# Altium footprint library 分立器件.PcbLib: 102 footprints (part 6 of 7)
Each footprint in its own frame and in the unit in brackets; x right, y up, seen from the top. Pads: shape width x height; smd on the part's side, far side on the other; paste and mask are expansions set on the pad; w line width, h text height; cw(c..) or ccw(c..) is an arc to the next point about the centre after c.
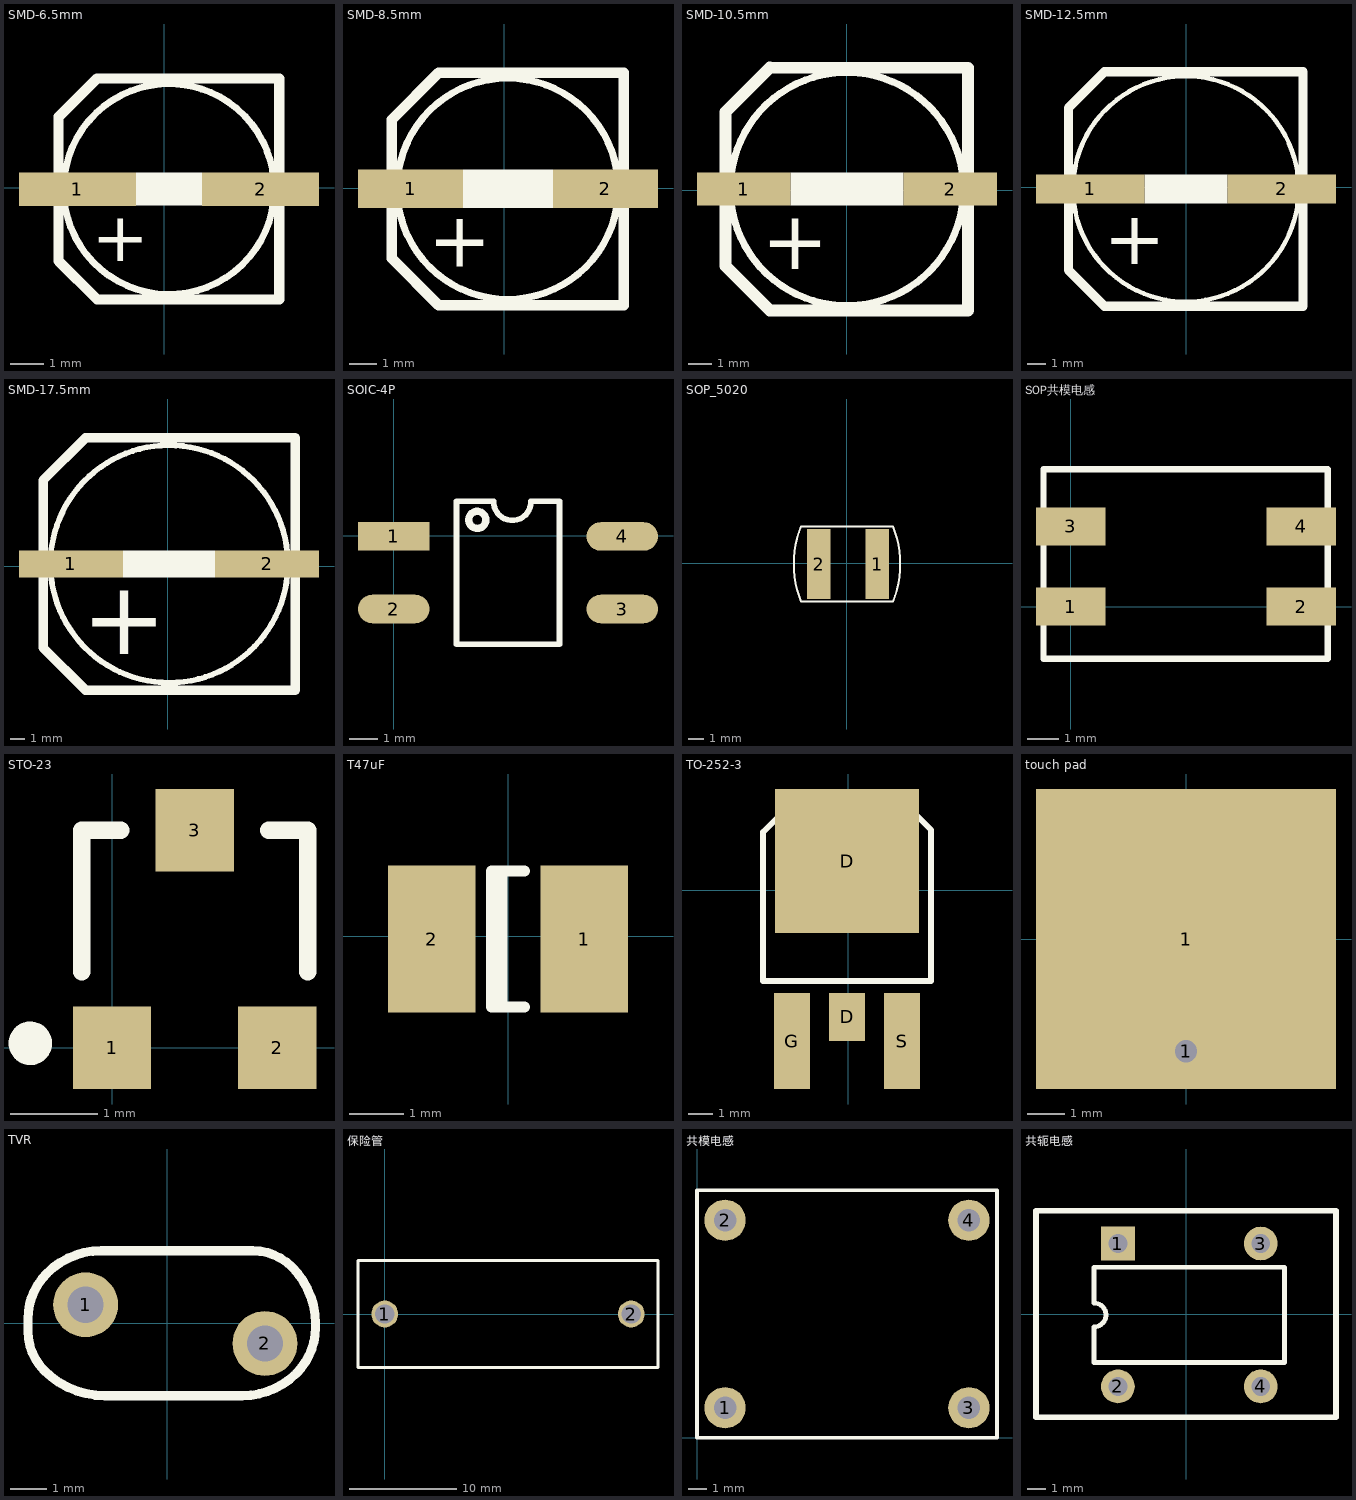
[diagram p5: the footprints below, top view; thin cyan lines are the x and y axes]

## SMD-6.5mm [mm]
pads (2):
  rect 3.5x1 smd: 1(-2.593,-0.049) 2(2.882,-0.049)
Top Overlay:
  rectangle: -0.846,-0.545 1.137,0.451
  lines w0.203: 3.075,1.105 cw(c0.143,-0.047) 3.074,1.107
  lines w0.305: -2.006,-3.352 -3.157,-2.201 -3.157,2.114 -2.006,3.265 ; -2.003,-3.354 3.443,-3.354 3.443,3.26 -2.001,3.26
  text "+" at -2.162,-2.213 h1.5

## SMD-8.5mm [mm]
pads (2):
  rect 3.8x1.4 smd: 1(-3.392,-0.021) 2(3.658,-0.021)
Top Overlay:
  rectangle: -1.503,-0.72 1.76,0.679
  lines w0.254: 4.123,-0.02 ccw(c0.123,-0.02) 4.123,-0.021
  lines w0.381: -4.078,2.478 -2.379,4.178 ; -4.078,2.478 -4.078,-2.541 -2.379,-4.24 4.322,-4.24 4.322,4.178 -2.379,4.178 ; -4.078,2.478 -2.379,4.178
  text "+" at -2.752,-2.838 h2

## SMD-10.5mm [mm]
pads (2):
  rect 4x1.4 smd: 1(-4.411,0.049) 2(4.448,0.049)
Top Overlay:
  circle w0.305: c0.011,0.049 r5
  rectangle: -2.406,-0.652 2.438,0.756
  lines w0.508: -3.291,5.252 -5.189,3.355 -5.189,-3.254 -3.291,-5.152 5.209,-5.152 5.209,5.249 -3.288,5.249
  text "+" at -3.631,-3.391 h2.5

## SMD-12.5mm [mm]
pads (2):
  rect 6x1.6 smd: 1(-5.337,-0.092) 2(5.288,-0.092)
Top Overlay:
  circle w0.254: c-0.034,-0.092 r6.25
  rectangle: -2.318,-0.892 2.264,0.709
  lines w0.508: -6.539,-4.59 -6.539,4.402 -4.54,6.401 -4.538,6.403 6.46,6.403 6.46,-6.591 -4.538,-6.591 -6.539,-4.59
  text "+" at -4.588,-4.26 h3

## SMD-17.5mm [mm]
pads (2):
  rect 7x1.8 smd: 1(-6.511,0.141) 2(6.704,0.141)
Top Overlay:
  rectangle: -3.008,-0.759 3.185,1.055
  lines w0.381: 7.79,2.381 ccw(c0.109,0.142) 7.804,2.331
  lines w0.635: 8.611,-8.358 8.612,-8.359 ; 8.611,8.637 8.612,8.638 ; 8.612,-8.359 8.612,8.638 ; 8.612,-8.359 -5.53,-8.359 -8.388,-5.501 -8.388,5.779 -5.53,8.638 8.612,8.638
  text "+" at -5.782,-5.946 h5

## SOIC-4P [mm]
pads (4):
  rect 2.5x1 smd: 1(0,-0.025)
  oval 2.5x1 smd: 2(0,-2.565) 3(8,-2.565) 4(8,-0.025)
Top Overlay:
  circle w0.254: c2.925,0.555 r0.3
  lines w0.2: 2.2,-3.795 5.8,-3.795 5.8,1.205 4.8,1.205 cw(c4.15,1.185) 3.5,1.205 2.2,1.205 2.2,-3.795

## SOP_5020 [mm]
pads (2):
  rect 1.5x4.5 smd: 1(1.972,-0.051) 2(-1.778,-0.051)
Top Overlay:
  lines w0.127: -2.923,2.357 ccw(c3.127,-0.051) -2.919,-2.469 ; -2.921,-2.464 2.975,-2.464 ; -2.921,2.362 2.975,2.362 ; 2.973,2.367 cw(c-3.073,-0.051) 2.977,-2.459

## SOP共模电感 [mm]
pads (4):
  rect 2.2x1.2 smd: 1(0,0) 2(7.3,0) 3(0,2.54) 4(7.3,2.54)
Top Overlay:
  lines w0.2: 8.134,4.349 -0.864,4.349 -0.864,-1.651 8.136,-1.651 8.136,4.346

## STO-23 [mm]
pads (3):
  rect 0.9x0.95 smd: 1(0,0) 2(1.9,0) 3(0.95,2.5)
Top Overlay:
  circle w0.25: c-0.94,0.051 r0.125
  lines w0.2: -0.35,0.875 -0.35,2.5 0.1,2.5 ; 1.8,2.5 2.25,2.5 2.25,0.875
3D body: height 1.2, standoff 0, extent -0.475,-0.226 2.426,2.574

## T47uF [mm]
pads (2):
  rect 1.6x2.7 smd: 1(1.4,-0.051) 2(-1.4,-0.051)
Top Overlay:
  lines w0.2: -0.11,-1.301 -0.11,1.199 ; 0.3,-1.301 -0.3,-1.301 -0.3,1.199 0.3,1.199

## TO-252-3 [mm]
pads (4):
  rect 1.5x2 smd: D(-0.062,-5.274)
  rect 6x6 smd: D(-0.062,1.226)
  rect 1.5x4 smd: G(-2.362,-6.274) S(2.238,-6.274)
Top Overlay:
  lines w0.254: 2.238,3.226 2.738,3.226 3.438,2.526 3.438,1.726 3.438,-3.774 -3.562,-3.774 -3.562,1.726 -3.562,2.426 -2.762,3.226 -2.462,3.226 2.338,3.226

## touch pad [mm]
pads (2):
  round 1.2 hole 0.6: 1(0,-3)
  rect 8x8 smd: 1(0,0)

## TVR [mm]
pads (2):
  round 1.8 hole 1: 1(-2.261,0.508) 2(2.714,-0.567)
Top Overlay:
  lines w0.254: 0.164,2.008 2.378,2.008 cw(c2.378,0.472) 3.464,1.558 cw(c1.895,-0.011) 4.114,-0.011 4.114,-0.125 cw(c2.322,-0.125) 3.589,-1.392 cw(c2.081,0.117) 2.081,-2.017 -1.721,-2.017 cw(c-1.721,0.373) -3.411,-1.317 cw(c-2.324,-0.231) -3.861,-0.231 -3.861,0.116 cw(c-2.068,0.116) -3.336,1.383 cw(c-1.827,-0.126) -1.827,2.008 0.314,2.008

## 保险管 [mm]
pads (2):
  round 2.5 hole 1.8: 1(0,0) 2(23,0)
Top Overlay:
  lines w0.3: -2.5,-5 -2.5,5 25.5,5 25.5,-5 -2.5,-5

## 共模电感 [mm]
pads (4):
  round 2.2 hole 1.2: 1(1.5,1.6) 2(1.5,11.6) 3(14.5,1.6) 4(14.5,11.6)
Top Overlay:
  lines w0.2: 16,13.198 16,0 0,0 0,13.2 16,13.2

## 共轭电感 [mm]
pads (4):
  rect 1.8x1.8 hole 1: 1(-3.632,3.759)
  round 1.8 hole 1: 2(-3.632,-3.861) 3(3.988,3.759) 4(3.988,-3.861)
Top Overlay:
  lines w0.254: -4.902,-2.591 5.258,-2.591 5.258,2.489 -4.902,2.489 -4.902,0.584 cw(c-4.902,-0.051) -4.902,-0.686 -4.902,-2.591
  lines w0.3: -8,-5.5 -8,5.5 8,5.5 8,-5.5 -8,-5.5